# EAGLE library part MC33926 (library pololu_mc33926)
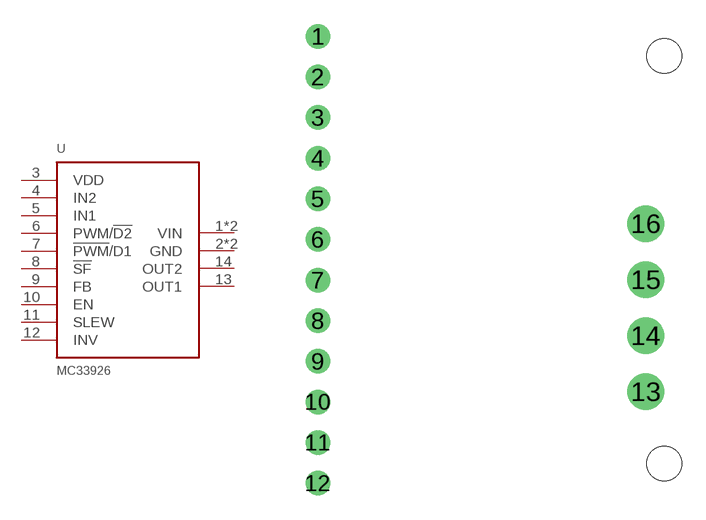
[diagram p0: symbol with the pads of SINGLE; footprint SINGLE]

Designator prefix U

## MC33926  [SINGLE]
1  VIN
2  GND
3  VDD
4  IN2
5  IN1
6  PWM/!D2!
7  !PWM!/D1
8  !SF!
9  FB
10  EN
11  SLEW
12  INV
13  OUT1
14  OUT2
15  GND
16  VIN

## Footprint SINGLE (pad centres in mm)
drill 1.02: 1 1.27,29.21; 2 1.27,26.67; 3 1.27,24.13; 4 1.27,21.59; 5 1.27,19.05; 6 1.27,16.51; 7 1.27,13.97; 8 1.27,11.43; 9 1.27,8.89; 10 1.27,6.35; 11 1.27,3.81; 12 1.27,1.27
drill 1.52: 13 21.75,7; 14 21.75,10.5; 15 21.75,14; 16 21.75,17.5
hole 2.18 at 22.9,27.98
hole 2.18 at 22.9,2.5